# EAGLE library part OLED_1.3IN_OLED1.3 (library Qwiic_OLED_1.3in)
OLED 1.3" 128x64 SSD1306
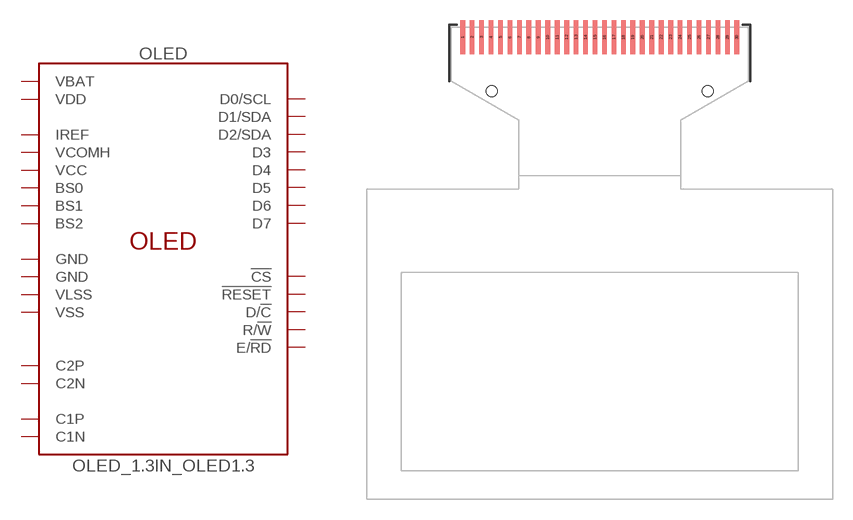
[diagram p0: symbol with the pads of OLED_1.3IN_OLED-1.3-128X64; footprint OLED_1.3IN_OLED-1.3-128X64]

Designator prefix OLED

## OLED_1.3IN_OLED1.3 (PROD_ID: LCD-19994)  [OLED_1.3IN_OLED-1.3-128X64]
1  GND
2  C2P
3  C2N
4  C1P
5  C1N
6  VBAT
8  VSS
9  VDD
10  BS0
11  BS1
12  BS2
13  !CS!
14  !RESET!
15  D/!C!
16  R/!W!
17  E/!RD!
18  D0/SCL
19  D1/SDA
20  D2/SDA
21  D3
22  D4
23  D5
24  D6
25  D7
26  IREF
27  VCOMH
28  VCC
29  VLSS
30  GND

## Footprint OLED_1.3IN_OLED-1.3-128X64 (pad centres in mm)
OLED display, 1.3 inch Specifications: Pin count: 30 Pin pitch: 0.7mm Active Area: 29.42 x 14.7mm Viewing Area: 31.42 x 16.7mm Panel Size: 34.5 (+/-0.2) x 23 (+/-0.2) mm
smd 0.35 x 2.5: 1 -10.15,0.25; 2 -9.45,0.25; 3 -8.75,0.25; 4 -8.05,0.25; 5 -7.35,0.25; 6 -6.65,0.25; 7 -5.95,0.25; 8 -5.25,0.25; 9 -4.55,0.25; 10 -3.85,0.25; 11 -3.15,0.25; 12 -2.45,0.25; 13 -1.75,0.25; 14 -1.05,0.25; 15 -0.35,0.25; 16 0.35,0.25; 17 1.05,0.25; 18 1.75,0.25; 19 2.45,0.25; 20 3.15,0.25; 21 3.85,0.25; 22 4.55,0.25; 23 5.25,0.25; 24 5.95,0.25; 25 6.65,0.25; 26 7.35,0.25; 27 8.05,0.25; 28 8.75,0.25; 29 9.45,0.25; 30 10.15,0.25
hole 0.8 at 8,-3.75
hole 0.8 at -8,-3.75